# Altium schematic symbol library AD-85F4CR.SchLib: 1 symbol
Pins are listed as number, name and electrical type; pins without a type are passive.

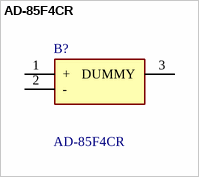
[diagram p0: symbol AD-85F4CR]

## AD-85F4CR
designator B?
Piezo Buzzers & Audio Indicators EM Buzzer 2730Hz 3.6VAC, 87dBA; Manufacturer_Name: AATC; Geometry.Height: 4.5mm; Mouser Part Number: *; Mouser Price/Stock: *; Manufacturer_Part_Number: AD-85F4CR; Datasheet Link: https://www.aatc.tw/images/pdf/202005089c959.pdf
footprint AD85F4CR
pins: 1 +, 2 -, 3 DUMMY